# EAGLE library part ST7735S_TFT_DISPLAY (library display)
ST7735S TFT LCD Display 128x160
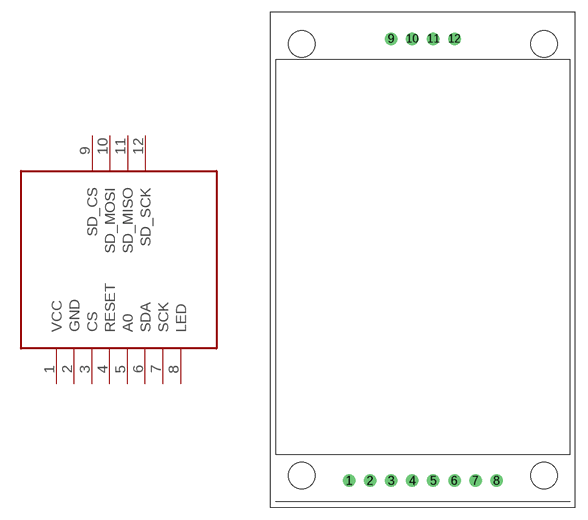
[diagram p0: symbol with the pads of ST7735S; footprint ST7735S]

Designator prefix -

## ST7735S_TFT_DISPLAY  [ST7735S]
1  VCC
2  GND
3  CS
4  RESET
5  A0
6  SDA
7  SCK
8  LED
9  SD_CS
10  SD_MOSI
11  SD_MISO
12  SD_SCK

## Footprint ST7735S (pad centres in mm)
drill 1: 1 0,0; 2 2.54,0; 3 5.08,0; 4 7.62,0; 5 10.16,0; 6 12.7,0; 7 15.24,0; 8 17.78,0; 9 5.08,53.34; 10 7.62,53.34; 11 10.16,53.34; 12 12.7,53.34
hole 3.2 at -5.715,52.705
hole 3.2 at -5.715,0.635
hole 3.2 at 23.495,0.635
hole 3.2 at 23.495,52.705